# Altium footprint library 分立器件.PcbLib: 102 footprints (part 7 of 7)
Each footprint in its own frame and in the unit in brackets; x right, y up, seen from the top. Pads: shape width x height; smd on the part's side, far side on the other; paste and mask are expansions set on the pad; w line width, h text height; cw(c..) or ccw(c..) is an arc to the next point about the centre after c.
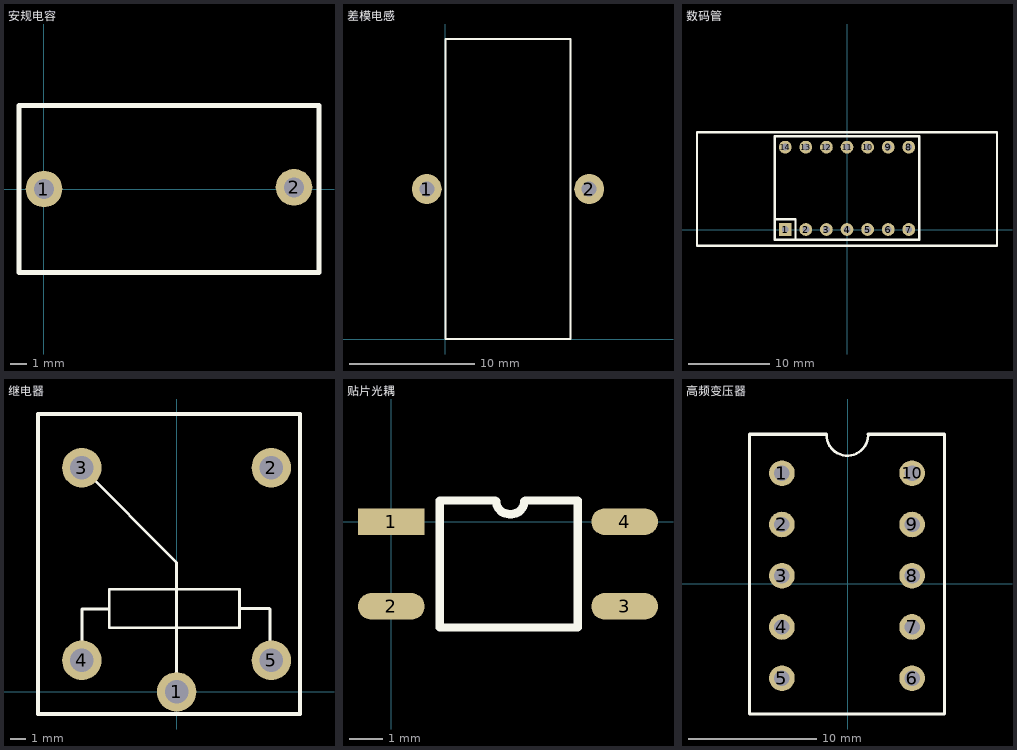
[diagram p6: the footprints below, top view; thin cyan lines are the x and y axes]

## 安规电容 [mm]
pads (2):
  round 2.2 hole 1.2: 1(0,0) 2(15,0.102)
Top Overlay:
  lines w0.3: -1.5,-5 -1.5,5 16.5,5 16.5,-5 -1.5,-5

## 差模电感 [mm]
pads (2):
  round 2.4 hole 1.2: 1(-1.5,12) 2(11.5,12)
Top Overlay:
  lines w0.2: 0,0 10,0 10,24 0,24 0,0

## 数码管 [mil]
pads (14):
  rect 62x62 hole 33.47: 1(-300,0)
  round 62 hole 33.47: 2(-200,0) 3(-100,0) 4(0,0) 5(100,0) 6(200,0) 7(300,0) 8(300,400) 9(200,400) 10(100,400) 11(0,400) 12(-100,400) 13(-200,400) 14(-300,400)
Top Overlay:
  lines w12: -350,50 -250,50 -250,-50 ; -728.35,-78.74 728.35,-78.74 728.35,472.44 -728.35,472.44 -728.35,-78.74 ; -350,-50 350,-50 350,452 -350,452 -350,-50

## 继电器 [mm]
pads (5):
  round 2.5 hole 1.5: 1(0,0) 2(6,14.2) 3(-6,14.2) 4(-6,2) 5(6,2)
Top Overlay:
  lines w0.178: -6,2 -6,5.252 -4.267,5.252 ; -6,14.2 0,8.2 0,0 ; 3.988,5.283 5.887,5.283 ; 5.918,5.252 5.918,2.082 6,2 ; -4.267,5.252 -4.267,4.064 3.988,4.064 3.988,6.502 -4.267,6.502 -4.267,5.252
  lines w0.254: -8.763,-1.4 -8.763,17.6 7.8,17.6 7.8,-1.4 -8.763,-1.4

## 贴片光耦 [mm]
pads (4):
  rect 2x0.8 smd: 1(0,0)
  oval 2x0.8 smd: 2(0,-2.54) 3(7,-2.54) 4(7,0)
Top Overlay:
  lines w0.254: 3.124,0.635 1.457,0.635 1.457,-3.175 5.588,-3.175 5.588,0.635 4.013,0.635 ; 3.15,0.61 ccw(c3.531,0.61) 3.531,0.229 ; 3.607,0.229 ccw(c3.607,0.61) 3.988,0.61

## 高频变压器 [mm]
pads (10):
  round 2 hole 1.2: 1(-5.156,8.636) 2(-5.156,4.636) 3(-5.156,0.636) 4(-5.156,-3.364) 5(-5.156,-7.364) 6(5.004,-7.364) 7(5.004,-3.364) 8(5.004,0.636) 9(5.004,4.636) 10(5.004,8.636)
Top Overlay:
  lines w0.2: -1.676,11.633 ccw(c-0.051,11.633) 1.574,11.582
  lines w0.254: -7.188,-10.16 7.544,-10.16 7.544,11.684 1.574,11.684 ; -6.172,-10.16 -7.696,-10.16 -7.696,11.684 -1.676,11.684